# EAGLE library part TPS56C230RJER (library TPS56C230RJER)
Switching Voltage Regulators 4.5-V to 18-V, 12-A synchronous buck converter 20-VQFN-HR -40 to 125 Source: Datasheet <https://www.ti.com/lit/gpn/TPS56C230>
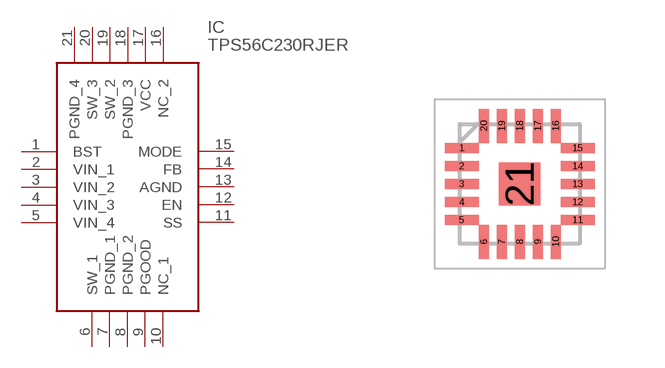
[diagram p0: symbol with the pads of QFN45P300X300X100-21N; footprint QFN45P300X300X100-21N]

Designator prefix IC

## TPS56C230RJER (Arrow_Part_Number: TPS56C230RJER; Arrow_Price-Stock: https://www.arrow.com/en/products/tps56c230rjer/texas-instruments?utm_currency=USD&region=nac; Description: Switching Voltage Regulators 4.5-V to 18-V, 12-A synchronous buck converter 20-VQFN-HR -40 to 125; Height: 1mm; Manufacturer_Name: Texas Instruments; Manufacturer_Part_Number: TPS56C230RJER; Mouser_Part_Number: 595-TPS56C230RJER; Mouser_Price-Stock: https://www.mouser.co.uk/ProductDetail/Texas-Instruments/TPS56C230RJER?qs=B6kkDfuK7%2FDZws9l9ZFrjw%3D%3D)  [QFN45P300X300X100-21N]
1  BST
2  VIN_1
3  VIN_2
4  VIN_3
5  VIN_4
6  SW_1
7  PGND_1
8  PGND_2
9  PGOOD
10  NC_1
11  SS
12  EN
13  AGND
14  FB
15  MODE
16  NC_2
17  VCC
18  PGND_3
19  SW_2
20  SW_3
21  PGND_4

## Footprint QFN45P300X300X100-21N (pad centres in mm)
rje
smd 0.85 x 0.25: 1 -1.45,0.9; 2 -1.45,0.45; 3 -1.45,0; 4 -1.45,-0.45; 5 -1.45,-0.9; 11 1.45,-0.9; 12 1.45,-0.45; 13 1.45,0; 14 1.45,0.45; 15 1.45,0.9
smd 0.25 x 0.85: 6 -0.9,-1.45; 7 -0.45,-1.45; 8 0,-1.45; 9 0.45,-1.45; 10 0.9,-1.45; 16 0.9,1.45; 17 0.45,1.45; 18 0,1.45; 19 -0.45,1.45; 20 -0.9,1.45
smd 1.026 x 1.075: 21 0,0